# EAGLE library part 61003421821 (library Wuerth_Elektronik_eiCan_Pin_&_Socked_Headers_v1.3)
WR-PHD 2.54mm Dual SMT Socket Header, 34 Pins
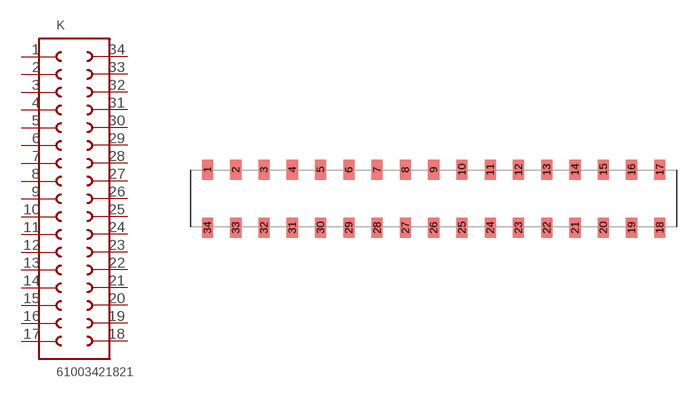
[diagram p262: symbol with the pads of 61003421821; footprint 61003421821]

Designator prefix K

## 61003421821  [61003421821]
1  1  pas
2  2  pas
3  3  pas
4  4  pas
5  5  pas
6  6  pas
7  7  pas
8  8  pas
9  9  pas
10  10  pas
11  11  pas
12  12  pas
13  13  pas
14  14  pas
15  15  pas
16  16  pas
17  17  pas
18  18  pas
19  19  pas
20  20  pas
21  21  pas
22  22  pas
23  23  pas
24  24  pas
25  25  pas
26  26  pas
27  27  pas
28  28  pas
29  29  pas
30  30  pas
31  31  pas
32  32  pas
33  33  pas
34  34  pas

## Footprint 61003421821 (pad centres in mm)
WR-PHD 2.54mm Dual SMT Socket Header, 34 Pins
smd 1 x 1.8: 1 -20.32,2.6; 2 -17.78,2.6; 3 -15.24,2.6; 4 -12.7,2.6; 5 -10.16,2.6; 6 -7.62,2.6; 7 -5.08,2.6; 8 -2.54,2.6; 9 0,2.6; 10 2.54,2.6; 11 5.08,2.6; 12 7.62,2.6; 13 10.16,2.6; 14 12.7,2.6; 15 15.24,2.6; 16 17.78,2.6; 17 20.32,2.6; 18 20.32,-2.6; 19 17.78,-2.6; 20 15.24,-2.6; 21 12.7,-2.6; 22 10.16,-2.6; 23 7.62,-2.6; 24 5.08,-2.6; 25 2.54,-2.6; 26 0,-2.6; 27 -2.54,-2.6; 28 -5.08,-2.6; 29 -7.62,-2.6; 30 -10.16,-2.6; 31 -12.7,-2.6; 32 -15.24,-2.6; 33 -17.78,-2.6; 34 -20.32,-2.6